# EAGLE library part ADT7301ARMZ (library MSP430fr24333)
Temp Sensor Digital Serial SPI Source: Datasheet <https://componentsearchengine.com/Datasheets/1/ADT7301ARMZ.pdf>
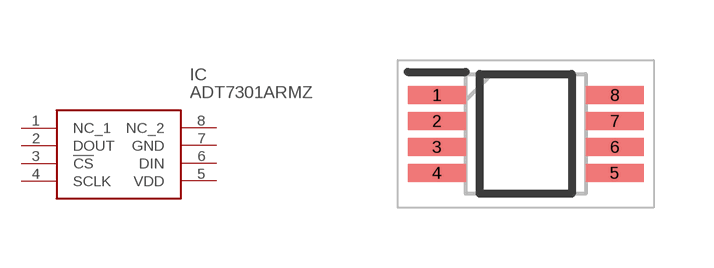
[diagram p7: symbol with the pads of SOP65P490X110-8N; footprint SOP65P490X110-8N]

Designator prefix IC

## ADT7301ARMZ (DESCRIPTION: Temp Sensor Digital Serial SPI; HEIGHT: 1.1mm; MANUFACTURER_NAME: Analog Devices; MANUFACTURER_PART_NUMBER: ADT7301ARMZ; MOUSER_PART_NUMBER: 584-ADT7301ARMZ; MOUSER_PRICE-STOCK: https://www.mouser.com/Search/Refine.aspx?Keyword=584-ADT7301ARMZ)  [SOP65P490X110-8N]
1  NC_1
2  DOUT
3  !CS
4  SCLK
5  VDD
6  DIN
7  GND
8  NC_2

## Footprint SOP65P490X110-8N (pad centres in mm)
8-Lead MSOP*-*
smd 1.45 x 0.45: 1 -2.225,0.975; 2 -2.225,0.325; 3 -2.225,-0.325; 4 -2.225,-0.975; 5 2.225,-0.975; 6 2.225,-0.325; 7 2.225,0.325; 8 2.225,0.975